# EAGLE library part SN74LVC4245ADW (library SN74LVC4245ADW)
Check prices <https://pricing.snapeda.com/parts/SN74LVC4245ADW/Texas%20Instruments/view-part?ref=eda>
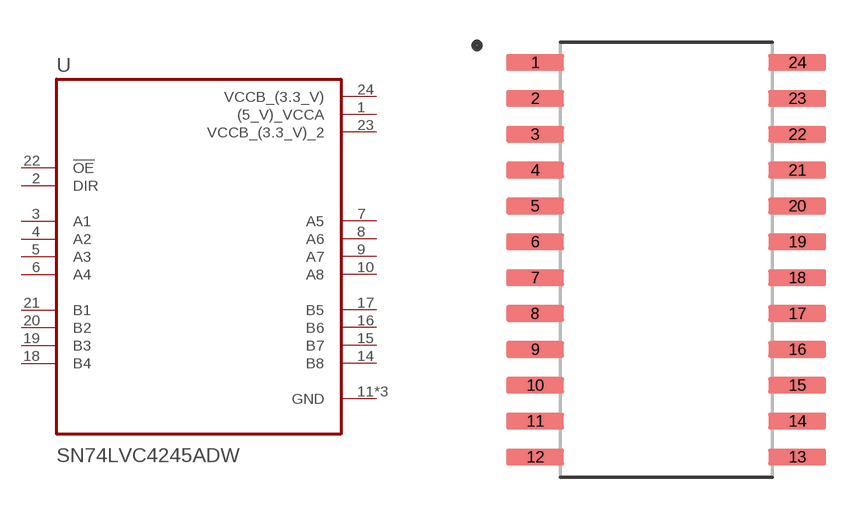
[diagram p0: symbol with the pads of SOIC127P1030X265-24N; footprint SOIC127P1030X265-24N]

Designator prefix U

## SN74LVC4245ADW (Availability: In Stock; Description: Octal Bus Transceiver And 3.3-V To 5-V Shifter With 3-State Outputs 24-SOIC -40 to 85; MF: Texas Instruments; MP: SN74LVC4245ADW; Package: SOIC-24 Texas Instruments; Price: None; Purchase-URL: https://pricing.snapeda.com/search/part/SN74LVC4245ADW/?ref=eda)  [SOIC127P1030X265-24N]
1  (5_V)_VCCA  pwr
2  DIR  in
3  A1
4  A2
5  A3
6  A4
7  A5
8  A6
9  A7
10  A8
11  GND  pwr
12  GND  pwr
13  GND  pwr
14  B8
15  B7
16  B6
17  B5
18  B4
19  B3
20  B2
21  B1
22  !OE  in
23  VCCB_(3.3_V)_2  pwr
24  VCCB_(3.3_V)  pwr

## Footprint SOIC127P1030X265-24N (pad centres in mm)
smd 2.06 x 0.6: 1 -4.64,6.985; 2 -4.64,5.715; 3 -4.64,4.445; 4 -4.64,3.175; 5 -4.64,1.905; 6 -4.64,0.635; 7 -4.64,-0.635; 8 -4.64,-1.905; 9 -4.64,-3.175; 10 -4.64,-4.445; 11 -4.64,-5.715; 12 -4.64,-6.985; 13 4.64,-6.985; 14 4.64,-5.715; 15 4.64,-4.445; 16 4.64,-3.175; 17 4.64,-1.905; 18 4.64,-0.635; 19 4.64,0.635; 20 4.64,1.905; 21 4.64,3.175; 22 4.64,4.445; 23 4.64,5.715; 24 4.64,6.985